# Altium footprint library POWERDI123.PcbLib: 1 footprints
Each footprint in its own frame and in the unit in brackets; x right, y up, seen from the top. Pads: shape width x height; smd on the part's side, far side on the other; paste and mask are expansions set on the pad; w line width, h text height; cw(c..) or ccw(c..) is an arc to the next point about the centre after c.
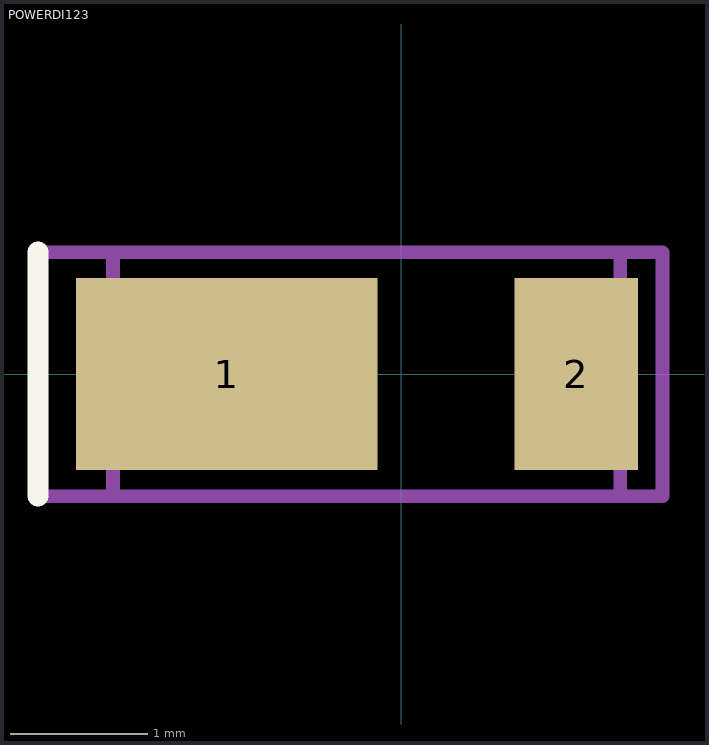
[diagram p0: the footprint, top view; thin cyan lines are the x and y axes]

## POWERDI123 [mm] "Body 3.7X1.78mm  High 0.98mm"
height 0.98
pads (2):
  rect 2.2x1.4 smd: 1(-1.275,0)
  rect 0.9x1.4 smd: 2(1.275,0)
Top Overlay:
  lines w0.152: -2.651,-0.891 -2.651,0.889
Mechanical 13:
  lines w0.1: -2.104,-0.891 -2.104,0.889 1.596,0.889 1.596,-0.891 -2.104,-0.891
Mechanical 15:
  lines w0.1: -2.667,-0.891 1.905,-0.891 1.905,0.889 -2.667,0.889 -2.667,-0.891
3D body: height 0.93, standoff -0.05, extent -2.104,-0.891 1.596,0.889